# EAGLE library part CAT24C32HU4I-GT3 (library pi3_hat)
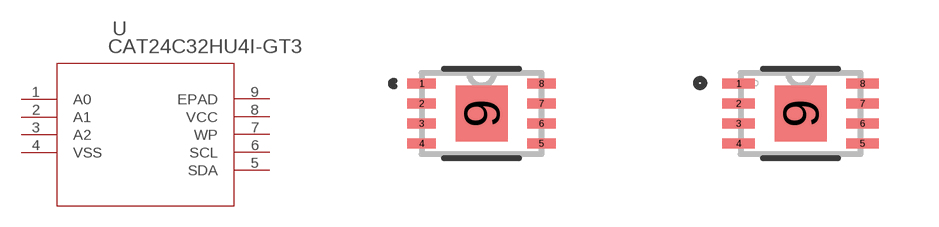
[diagram p14: symbol with the pads of UDFN8_2X3_ONS; footprints UDFN8_2X3_ONS, UDFN8_2X3_ONS-M]

Designator prefix U

## CAT24C32HU4I-GT3 (COPYRIGHT: Copyright (C) 2016 Accelerated Designs. All rights reserved; MANUFACTURER_PART_NUMBER: CAT24C32HU4I-GT3; SOURCELIBRARY: ONSemi_2017-12-12_3; VENDOR: ON Semiconductor)  [UDFN8_2X3_ONS]
1  A0  pas
2  A1  pas
3  A2  pas
4  VSS  pwr
5  SDA  pas
6  SCL  pas
7  WP  pas
8  VCC  pwr
9  EPAD  pas

## CAT24C32HU4I-GT3UDFN8_2X3_ONS-M (COPYRIGHT: Copyright (C) 2016 Accelerated Designs. All rights reserved; MANUFACTURER_PART_NUMBER: CAT24C32HU4I-GT3; SOURCELIBRARY: ONSemi_2017-12-12_3; VENDOR: ON Semiconductor)  [UDFN8_2X3_ONS-M]
Pads as for UDFN8_2X3_ONS

## CAT24C32HU4I-GT3UDFN8_2X3_ONS-L (COPYRIGHT: Copyright (C) 2016 Accelerated Designs. All rights reserved; MANUFACTURER_PART_NUMBER: CAT24C32HU4I-GT3; SOURCELIBRARY: ONSemi_2017-12-12_3; VENDOR: ON Semiconductor)  [UDFN8_2X3_ONS-L]
Pads as for UDFN8_2X3_ONS

## Footprint UDFN8_2X3_ONS (pad centres in mm)
smd 0.711 x 0.254: 1 -1.499,0.75; 2 -1.499,0.25; 3 -1.499,-0.25; 4 -1.499,-0.75; 5 1.499,-0.75; 6 1.499,-0.25; 7 1.499,0.25; 8 1.499,0.75
smd 1.295 x 1.397: 9 0,0

## Footprint UDFN8_2X3_ONS-M (pad centres in mm)
smd 0.813 x 0.254: 1 -1.549,0.75; 2 -1.549,0.25; 3 -1.549,-0.25; 4 -1.549,-0.75; 5 1.549,-0.75; 6 1.549,-0.25; 7 1.549,0.25; 8 1.549,0.75
smd 1.295 x 1.397: 9 0,0

## Footprint UDFN8_2X3_ONS-L (pad centres in mm)
smd 0.61 x 0.254: 1 -1.448,0.75; 2 -1.448,0.25; 3 -1.448,-0.25; 4 -1.448,-0.75; 5 1.448,-0.75; 6 1.448,-0.25; 7 1.448,0.25; 8 1.448,0.75
smd 1.295 x 1.397: 9 0,0